# Altium footprint library Connector_Samtec_HLE_SMD.PcbLib: 290 footprints (part 8 of 24)
Each footprint in its own frame and in the unit in brackets; x right, y up, seen from the top. Pads: shape width x height; smd on the part's side, far side on the other; paste and mask are expansions set on the pad; w line width, h text height; cw(c..) or ccw(c..) is an arc to the next point about the centre after c.
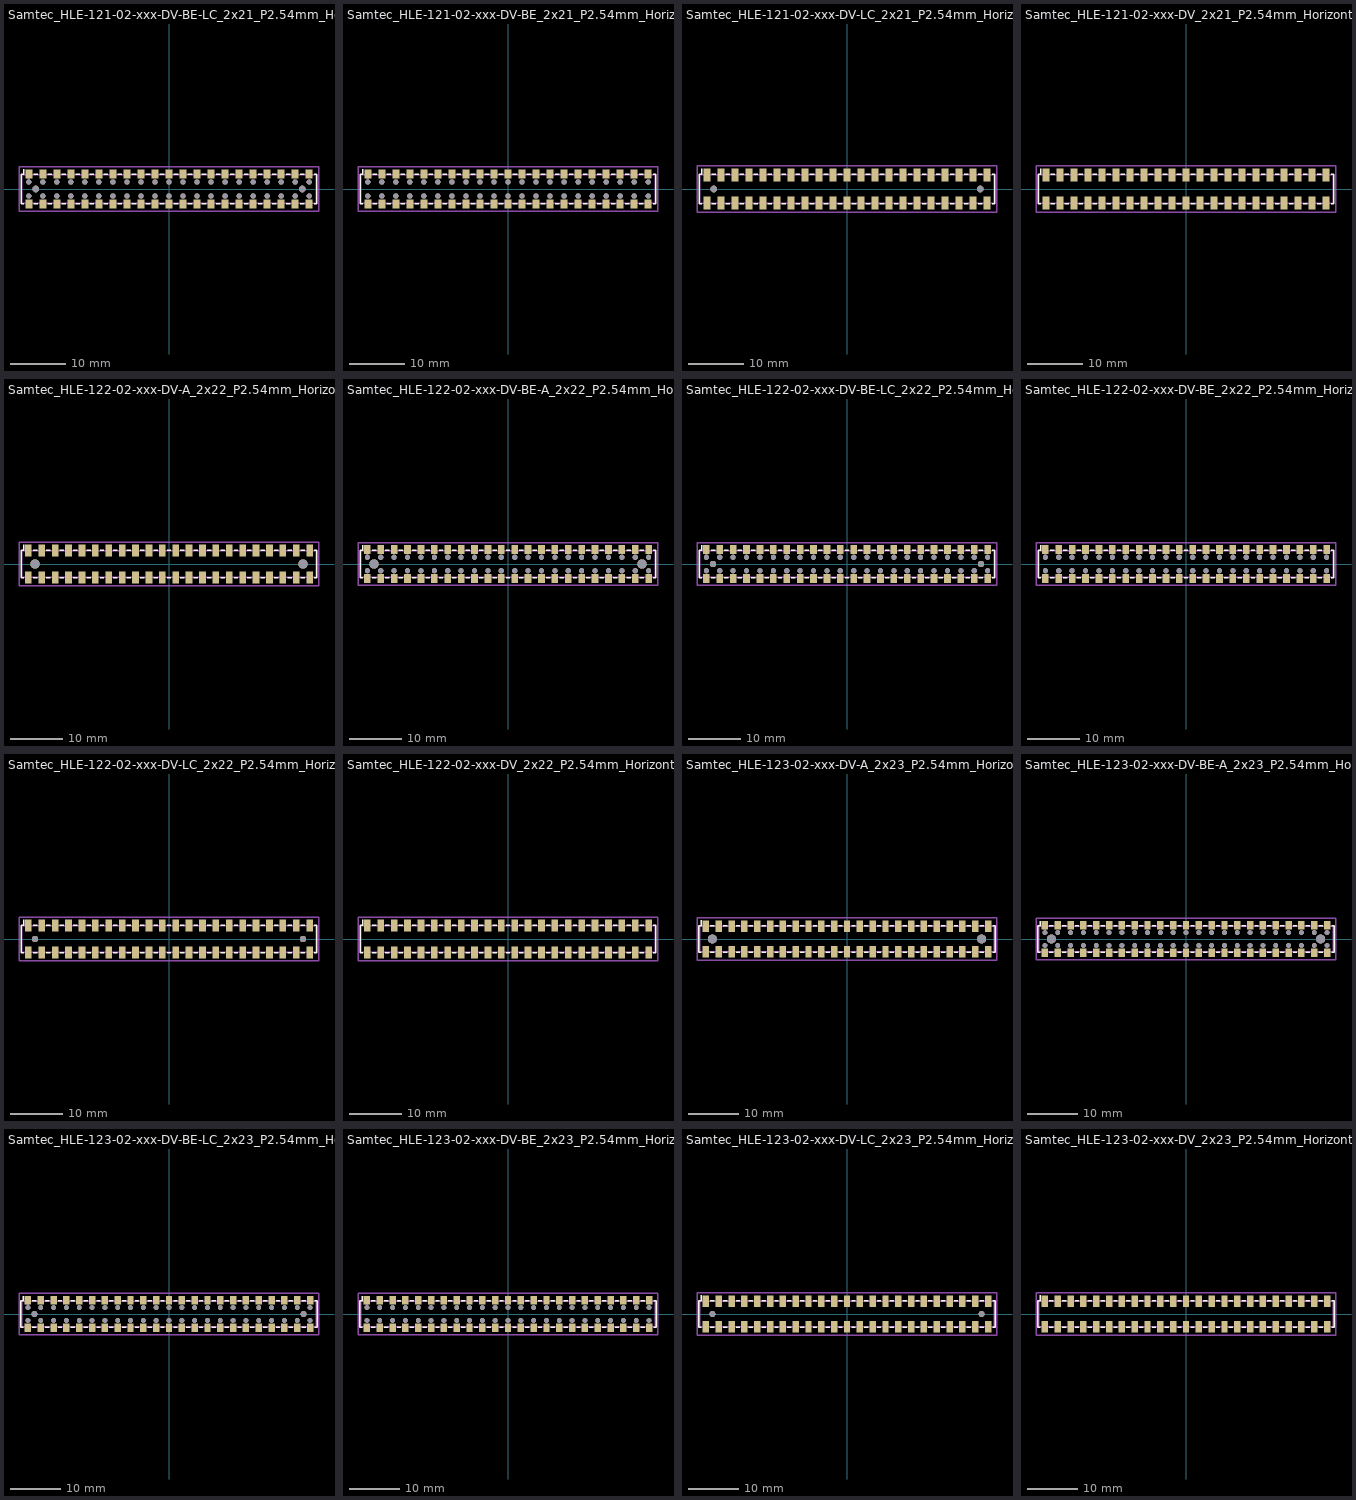
[diagram p7: the footprints below, top view; thin cyan lines are the x and y axes]

## Samtec_HLE-121-02-xxx-DV-BE-LC_2x21_P2.54mm_Horizontal [mm]
pads (86):
  rect 1.27x1.68 smd: 1(-25.4,2.72) 2(-25.4,-2.72) 3(-22.86,2.72) 4(-22.86,-2.72) 5(-20.32,2.72) 6(-20.32,-2.72) 7(-17.78,2.72) 8(-17.78,-2.72) 9(-15.24,2.72) 10(-15.24,-2.72) 11(-12.7,2.72) 12(-12.7,-2.72) 13(-10.16,2.72) 14(-10.16,-2.72) 15(-7.62,2.72) 16(-7.62,-2.72) 17(-5.08,2.72) 18(-5.08,-2.72) 19(-2.54,2.72) 20(-2.54,-2.72) 21(0,2.72) 22(0,-2.72) 23(2.54,2.72) 24(2.54,-2.72) 25(5.08,2.72) 26(5.08,-2.72) 27(7.62,2.72) 28(7.62,-2.72) 29(10.16,2.72) 30(10.16,-2.72) 31(12.7,2.72) 32(12.7,-2.72) 33(15.24,2.72) 34(15.24,-2.72) 35(17.78,2.72) 36(17.78,-2.72) 37(20.32,2.72) 38(20.32,-2.72) 39(22.86,2.72) 40(22.86,-2.72) 41(25.4,2.72) 42(25.4,-2.72)
  round 0.97 hole 0.97: Un1(-25.4,1.27) Un2(-25.4,-1.27) Un4(-22.86,1.27) Un5(-22.86,-1.27) Un6(-20.32,1.27) Un7(-20.32,-1.27) Un8(-17.78,1.27) Un9(-17.78,-1.27) Un10(-15.24,1.27) Un11(-15.24,-1.27) Un12(-12.7,1.27) Un13(-12.7,-1.27) Un14(-10.16,1.27) Un15(-10.16,-1.27) Un16(-7.62,1.27) Un17(-7.62,-1.27) Un18(-5.08,1.27) Un19(-5.08,-1.27) Un20(-2.54,1.27) Un21(-2.54,-1.27) Un22(0,1.27) Un23(0,-1.27) Un24(2.54,1.27) Un25(2.54,-1.27) Un26(5.08,1.27) Un27(5.08,-1.27) Un28(7.62,1.27) Un29(7.62,-1.27) Un30(10.16,1.27) Un31(10.16,-1.27) Un32(12.7,1.27) Un33(12.7,-1.27) Un34(15.24,1.27) Un35(15.24,-1.27) Un36(17.78,1.27) Un37(17.78,-1.27) Un38(20.32,1.27) Un39(20.32,-1.27) Un40(22.86,1.27) Un41(22.86,-1.27) Un43(25.4,1.27) Un44(25.4,-1.27)
  round 1.19 hole 1.19: Un3(-24.13,0) Un42(24.13,0)
F.SilkS:
  lines w0.254: -26.295,-2.65 -26.78,-2.65 -26.78,2.65 -26.295,2.65 -26.295,3.56 ; -24.505,-2.65 -23.755,-2.65 ; -24.505,2.65 -23.755,2.65 ; -21.965,-2.65 -21.215,-2.65 ; -21.965,2.65 -21.215,2.65 ; -19.425,-2.65 -18.675,-2.65 ; -19.425,2.65 -18.675,2.65 ; -16.885,-2.65 -16.135,-2.65 ; -16.885,2.65 -16.135,2.65 ; -14.345,-2.65 -13.595,-2.65 ; -14.345,2.65 -13.595,2.65 ; -11.805,-2.65 -11.055,-2.65 ; -11.805,2.65 -11.055,2.65 ; -9.265,-2.65 -8.515,-2.65 ; -9.265,2.65 -8.515,2.65 ; -6.725,-2.65 -5.975,-2.65 ; -6.725,2.65 -5.975,2.65 ; -4.185,-2.65 -3.435,-2.65 ; -4.185,2.65 -3.435,2.65 ; -1.645,-2.65 -0.895,-2.65 ; -1.645,2.65 -0.895,2.65 ; 0.895,-2.65 1.645,-2.65 ; 0.895,2.65 1.645,2.65 ; 3.435,-2.65 4.185,-2.65 ; 3.435,2.65 4.185,2.65 ; 5.975,-2.65 6.725,-2.65 ; 5.975,2.65 6.725,2.65 ; 8.515,-2.65 9.265,-2.65 ; 8.515,2.65 9.265,2.65 ; 11.055,-2.65 11.805,-2.65 ; 11.055,2.65 11.805,2.65 ; 13.595,-2.65 14.345,-2.65 ; 13.595,2.65 14.345,2.65 ; 16.135,-2.65 16.885,-2.65 ; 16.135,2.65 16.885,2.65 ; 18.675,-2.65 19.425,-2.65 ; 18.675,2.65 19.425,2.65 ; 21.215,-2.65 21.965,-2.65 ; 21.215,2.65 21.965,2.65 ; 23.755,-2.65 24.505,-2.65 ; 23.755,2.65 24.505,2.65 ; 26.295,-2.65 26.78,-2.65 26.78,2.65 26.295,2.65
Top Assembly:
  lines w0.254: -25.9,2.54 -25.4,1.833 -24.9,2.54 ; -26.67,-2.54 26.67,-2.54 26.67,2.54 -26.67,2.54 -26.67,-2.54
  text "'.Designator'" at -4.047,-2.68 h1
Top Courtyard:
  lines w0.254: -27.17,-4.07 27.17,-4.07 27.17,4.07 -27.17,4.07 -27.17,-4.07
Top Designator:
  text ".Designator" at -7.618,-0.508 h1.52

## Samtec_HLE-121-02-xxx-DV-BE_2x21_P2.54mm_Horizontal [mm]
pads (84):
  rect 1.27x1.68 smd: 1(-25.4,2.72) 2(-25.4,-2.72) 3(-22.86,2.72) 4(-22.86,-2.72) 5(-20.32,2.72) 6(-20.32,-2.72) 7(-17.78,2.72) 8(-17.78,-2.72) 9(-15.24,2.72) 10(-15.24,-2.72) 11(-12.7,2.72) 12(-12.7,-2.72) 13(-10.16,2.72) 14(-10.16,-2.72) 15(-7.62,2.72) 16(-7.62,-2.72) 17(-5.08,2.72) 18(-5.08,-2.72) 19(-2.54,2.72) 20(-2.54,-2.72) 21(0,2.72) 22(0,-2.72) 23(2.54,2.72) 24(2.54,-2.72) 25(5.08,2.72) 26(5.08,-2.72) 27(7.62,2.72) 28(7.62,-2.72) 29(10.16,2.72) 30(10.16,-2.72) 31(12.7,2.72) 32(12.7,-2.72) 33(15.24,2.72) 34(15.24,-2.72) 35(17.78,2.72) 36(17.78,-2.72) 37(20.32,2.72) 38(20.32,-2.72) 39(22.86,2.72) 40(22.86,-2.72) 41(25.4,2.72) 42(25.4,-2.72)
  round 0.97 hole 0.97: Un1(-25.4,1.27) Un2(-25.4,-1.27) Un3(-22.86,1.27) Un4(-22.86,-1.27) Un5(-20.32,1.27) Un6(-20.32,-1.27) Un7(-17.78,1.27) Un8(-17.78,-1.27) Un9(-15.24,1.27) Un10(-15.24,-1.27) Un11(-12.7,1.27) Un12(-12.7,-1.27) Un13(-10.16,1.27) Un14(-10.16,-1.27) Un15(-7.62,1.27) Un16(-7.62,-1.27) Un17(-5.08,1.27) Un18(-5.08,-1.27) Un19(-2.54,1.27) Un20(-2.54,-1.27) Un21(0,1.27) Un22(0,-1.27) Un23(2.54,1.27) Un24(2.54,-1.27) Un25(5.08,1.27) Un26(5.08,-1.27) Un27(7.62,1.27) Un28(7.62,-1.27) Un29(10.16,1.27) Un30(10.16,-1.27) Un31(12.7,1.27) Un32(12.7,-1.27) Un33(15.24,1.27) Un34(15.24,-1.27) Un35(17.78,1.27) Un36(17.78,-1.27) Un37(20.32,1.27) Un38(20.32,-1.27) Un39(22.86,1.27) Un40(22.86,-1.27) Un41(25.4,1.27) Un42(25.4,-1.27)
F.SilkS:
  lines w0.254: -26.295,-2.65 -26.78,-2.65 -26.78,2.65 -26.295,2.65 -26.295,3.56 ; -24.505,-2.65 -23.755,-2.65 ; -24.505,2.65 -23.755,2.65 ; -21.965,-2.65 -21.215,-2.65 ; -21.965,2.65 -21.215,2.65 ; -19.425,-2.65 -18.675,-2.65 ; -19.425,2.65 -18.675,2.65 ; -16.885,-2.65 -16.135,-2.65 ; -16.885,2.65 -16.135,2.65 ; -14.345,-2.65 -13.595,-2.65 ; -14.345,2.65 -13.595,2.65 ; -11.805,-2.65 -11.055,-2.65 ; -11.805,2.65 -11.055,2.65 ; -9.265,-2.65 -8.515,-2.65 ; -9.265,2.65 -8.515,2.65 ; -6.725,-2.65 -5.975,-2.65 ; -6.725,2.65 -5.975,2.65 ; -4.185,-2.65 -3.435,-2.65 ; -4.185,2.65 -3.435,2.65 ; -1.645,-2.65 -0.895,-2.65 ; -1.645,2.65 -0.895,2.65 ; 0.895,-2.65 1.645,-2.65 ; 0.895,2.65 1.645,2.65 ; 3.435,-2.65 4.185,-2.65 ; 3.435,2.65 4.185,2.65 ; 5.975,-2.65 6.725,-2.65 ; 5.975,2.65 6.725,2.65 ; 8.515,-2.65 9.265,-2.65 ; 8.515,2.65 9.265,2.65 ; 11.055,-2.65 11.805,-2.65 ; 11.055,2.65 11.805,2.65 ; 13.595,-2.65 14.345,-2.65 ; 13.595,2.65 14.345,2.65 ; 16.135,-2.65 16.885,-2.65 ; 16.135,2.65 16.885,2.65 ; 18.675,-2.65 19.425,-2.65 ; 18.675,2.65 19.425,2.65 ; 21.215,-2.65 21.965,-2.65 ; 21.215,2.65 21.965,2.65 ; 23.755,-2.65 24.505,-2.65 ; 23.755,2.65 24.505,2.65 ; 26.295,-2.65 26.78,-2.65 26.78,2.65 26.295,2.65
Top Assembly:
  lines w0.254: -25.9,2.54 -25.4,1.833 -24.9,2.54 ; -26.67,-2.54 26.67,-2.54 26.67,2.54 -26.67,2.54 -26.67,-2.54
  text "'.Designator'" at -4.047,-2.68 h1
Top Courtyard:
  lines w0.254: -27.17,-4.07 27.17,-4.07 27.17,4.07 -27.17,4.07 -27.17,-4.07
Top Designator:
  text ".Designator" at -7.618,-0.508 h1.52

## Samtec_HLE-121-02-xxx-DV-LC_2x21_P2.54mm_Horizontal [mm]
pads (44):
  rect 1.27x2.29 smd: 1(-25.4,2.525) 2(-25.4,-2.525) 3(-22.86,2.525) 4(-22.86,-2.525) 5(-20.32,2.525) 6(-20.32,-2.525) 7(-17.78,2.525) 8(-17.78,-2.525) 9(-15.24,2.525) 10(-15.24,-2.525) 11(-12.7,2.525) 12(-12.7,-2.525) 13(-10.16,2.525) 14(-10.16,-2.525) 15(-7.62,2.525) 16(-7.62,-2.525) 17(-5.08,2.525) 18(-5.08,-2.525) 19(-2.54,2.525) 20(-2.54,-2.525) 21(0,2.525) 22(0,-2.525) 23(2.54,2.525) 24(2.54,-2.525) 25(5.08,2.525) 26(5.08,-2.525) 27(7.62,2.525) 28(7.62,-2.525) 29(10.16,2.525) 30(10.16,-2.525) 31(12.7,2.525) 32(12.7,-2.525) 33(15.24,2.525) 34(15.24,-2.525) 35(17.78,2.525) 36(17.78,-2.525) 37(20.32,2.525) 38(20.32,-2.525) 39(22.86,2.525) 40(22.86,-2.525) 41(25.4,2.525) 42(25.4,-2.525)
  round 1.19 hole 1.19: Un1(-24.13,0) Un2(24.13,0)
F.SilkS:
  lines w0.254: -26.295,-2.65 -26.78,-2.65 -26.78,2.65 -26.295,2.65 -26.295,3.67 ; -24.505,-2.65 -23.755,-2.65 ; -24.505,2.65 -23.755,2.65 ; -21.965,-2.65 -21.215,-2.65 ; -21.965,2.65 -21.215,2.65 ; -19.425,-2.65 -18.675,-2.65 ; -19.425,2.65 -18.675,2.65 ; -16.885,-2.65 -16.135,-2.65 ; -16.885,2.65 -16.135,2.65 ; -14.345,-2.65 -13.595,-2.65 ; -14.345,2.65 -13.595,2.65 ; -11.805,-2.65 -11.055,-2.65 ; -11.805,2.65 -11.055,2.65 ; -9.265,-2.65 -8.515,-2.65 ; -9.265,2.65 -8.515,2.65 ; -6.725,-2.65 -5.975,-2.65 ; -6.725,2.65 -5.975,2.65 ; -4.185,-2.65 -3.435,-2.65 ; -4.185,2.65 -3.435,2.65 ; -1.645,-2.65 -0.895,-2.65 ; -1.645,2.65 -0.895,2.65 ; 0.895,-2.65 1.645,-2.65 ; 0.895,2.65 1.645,2.65 ; 3.435,-2.65 4.185,-2.65 ; 3.435,2.65 4.185,2.65 ; 5.975,-2.65 6.725,-2.65 ; 5.975,2.65 6.725,2.65 ; 8.515,-2.65 9.265,-2.65 ; 8.515,2.65 9.265,2.65 ; 11.055,-2.65 11.805,-2.65 ; 11.055,2.65 11.805,2.65 ; 13.595,-2.65 14.345,-2.65 ; 13.595,2.65 14.345,2.65 ; 16.135,-2.65 16.885,-2.65 ; 16.135,2.65 16.885,2.65 ; 18.675,-2.65 19.425,-2.65 ; 18.675,2.65 19.425,2.65 ; 21.215,-2.65 21.965,-2.65 ; 21.215,2.65 21.965,2.65 ; 23.755,-2.65 24.505,-2.65 ; 23.755,2.65 24.505,2.65 ; 26.295,-2.65 26.78,-2.65 26.78,2.65 26.295,2.65
Top Assembly:
  lines w0.254: -25.9,2.54 -25.4,1.833 -24.9,2.54 ; -26.67,-2.54 26.67,-2.54 26.67,2.54 -26.67,2.54 -26.67,-2.54
  text "'.Designator'" at -4.047,-2.68 h1
Top Courtyard:
  lines w0.254: -27.17,-4.17 27.17,-4.17 27.17,4.17 -27.17,4.17 -27.17,-4.17
Top Designator:
  text ".Designator" at -7.618,-0.508 h1.52

## Samtec_HLE-121-02-xxx-DV_2x21_P2.54mm_Horizontal [mm]
pads (42):
  rect 1.27x2.29 smd: 1(-25.4,2.525) 2(-25.4,-2.525) 3(-22.86,2.525) 4(-22.86,-2.525) 5(-20.32,2.525) 6(-20.32,-2.525) 7(-17.78,2.525) 8(-17.78,-2.525) 9(-15.24,2.525) 10(-15.24,-2.525) 11(-12.7,2.525) 12(-12.7,-2.525) 13(-10.16,2.525) 14(-10.16,-2.525) 15(-7.62,2.525) 16(-7.62,-2.525) 17(-5.08,2.525) 18(-5.08,-2.525) 19(-2.54,2.525) 20(-2.54,-2.525) 21(0,2.525) 22(0,-2.525) 23(2.54,2.525) 24(2.54,-2.525) 25(5.08,2.525) 26(5.08,-2.525) 27(7.62,2.525) 28(7.62,-2.525) 29(10.16,2.525) 30(10.16,-2.525) 31(12.7,2.525) 32(12.7,-2.525) 33(15.24,2.525) 34(15.24,-2.525) 35(17.78,2.525) 36(17.78,-2.525) 37(20.32,2.525) 38(20.32,-2.525) 39(22.86,2.525) 40(22.86,-2.525) 41(25.4,2.525) 42(25.4,-2.525)
F.SilkS:
  lines w0.254: -26.295,-2.65 -26.78,-2.65 -26.78,2.65 -26.295,2.65 -26.295,3.67 ; -24.505,-2.65 -23.755,-2.65 ; -24.505,2.65 -23.755,2.65 ; -21.965,-2.65 -21.215,-2.65 ; -21.965,2.65 -21.215,2.65 ; -19.425,-2.65 -18.675,-2.65 ; -19.425,2.65 -18.675,2.65 ; -16.885,-2.65 -16.135,-2.65 ; -16.885,2.65 -16.135,2.65 ; -14.345,-2.65 -13.595,-2.65 ; -14.345,2.65 -13.595,2.65 ; -11.805,-2.65 -11.055,-2.65 ; -11.805,2.65 -11.055,2.65 ; -9.265,-2.65 -8.515,-2.65 ; -9.265,2.65 -8.515,2.65 ; -6.725,-2.65 -5.975,-2.65 ; -6.725,2.65 -5.975,2.65 ; -4.185,-2.65 -3.435,-2.65 ; -4.185,2.65 -3.435,2.65 ; -1.645,-2.65 -0.895,-2.65 ; -1.645,2.65 -0.895,2.65 ; 0.895,-2.65 1.645,-2.65 ; 0.895,2.65 1.645,2.65 ; 3.435,-2.65 4.185,-2.65 ; 3.435,2.65 4.185,2.65 ; 5.975,-2.65 6.725,-2.65 ; 5.975,2.65 6.725,2.65 ; 8.515,-2.65 9.265,-2.65 ; 8.515,2.65 9.265,2.65 ; 11.055,-2.65 11.805,-2.65 ; 11.055,2.65 11.805,2.65 ; 13.595,-2.65 14.345,-2.65 ; 13.595,2.65 14.345,2.65 ; 16.135,-2.65 16.885,-2.65 ; 16.135,2.65 16.885,2.65 ; 18.675,-2.65 19.425,-2.65 ; 18.675,2.65 19.425,2.65 ; 21.215,-2.65 21.965,-2.65 ; 21.215,2.65 21.965,2.65 ; 23.755,-2.65 24.505,-2.65 ; 23.755,2.65 24.505,2.65 ; 26.295,-2.65 26.78,-2.65 26.78,2.65 26.295,2.65
Top Assembly:
  lines w0.254: -25.9,2.54 -25.4,1.833 -24.9,2.54 ; -26.67,-2.54 26.67,-2.54 26.67,2.54 -26.67,2.54 -26.67,-2.54
  text "'.Designator'" at -4.047,-2.68 h1
Top Courtyard:
  lines w0.254: -27.17,-4.17 27.17,-4.17 27.17,4.17 -27.17,4.17 -27.17,-4.17
Top Designator:
  text ".Designator" at -7.618,-0.508 h1.52

## Samtec_HLE-122-02-xxx-DV-A_2x22_P2.54mm_Horizontal [mm]
pads (46):
  rect 1.27x2.29 smd: 1(-26.67,2.525) 2(-26.67,-2.525) 3(-24.13,2.525) 4(-24.13,-2.525) 5(-21.59,2.525) 6(-21.59,-2.525) 7(-19.05,2.525) 8(-19.05,-2.525) 9(-16.51,2.525) 10(-16.51,-2.525) 11(-13.97,2.525) 12(-13.97,-2.525) 13(-11.43,2.525) 14(-11.43,-2.525) 15(-8.89,2.525) 16(-8.89,-2.525) 17(-6.35,2.525) 18(-6.35,-2.525) 19(-3.81,2.525) 20(-3.81,-2.525) 21(-1.27,2.525) 22(-1.27,-2.525) 23(1.27,2.525) 24(1.27,-2.525) 25(3.81,2.525) 26(3.81,-2.525) 27(6.35,2.525) 28(6.35,-2.525) 29(8.89,2.525) 30(8.89,-2.525) 31(11.43,2.525) 32(11.43,-2.525) 33(13.97,2.525) 34(13.97,-2.525) 35(16.51,2.525) 36(16.51,-2.525) 37(19.05,2.525) 38(19.05,-2.525) 39(21.59,2.525) 40(21.59,-2.525) 41(24.13,2.525) 42(24.13,-2.525) 43(26.67,2.525) 44(26.67,-2.525)
  round 1.78 hole 1.78: Un1(-25.4,0) Un2(25.4,0)
F.SilkS:
  lines w0.254: -27.565,-2.65 -28.05,-2.65 -28.05,2.65 -27.565,2.65 -27.565,3.67 ; -25.775,-2.65 -25.025,-2.65 ; -25.775,2.65 -25.025,2.65 ; -23.235,-2.65 -22.485,-2.65 ; -23.235,2.65 -22.485,2.65 ; -20.695,-2.65 -19.945,-2.65 ; -20.695,2.65 -19.945,2.65 ; -18.155,-2.65 -17.405,-2.65 ; -18.155,2.65 -17.405,2.65 ; -15.615,-2.65 -14.865,-2.65 ; -15.615,2.65 -14.865,2.65 ; -13.075,-2.65 -12.325,-2.65 ; -13.075,2.65 -12.325,2.65 ; -10.535,-2.65 -9.785,-2.65 ; -10.535,2.65 -9.785,2.65 ; -7.995,-2.65 -7.245,-2.65 ; -7.995,2.65 -7.245,2.65 ; -5.455,-2.65 -4.705,-2.65 ; -5.455,2.65 -4.705,2.65 ; -2.915,-2.65 -2.165,-2.65 ; -2.915,2.65 -2.165,2.65 ; -0.375,-2.65 0.375,-2.65 ; -0.375,2.65 0.375,2.65 ; 2.165,-2.65 2.915,-2.65 ; 2.165,2.65 2.915,2.65 ; 4.705,-2.65 5.455,-2.65 ; 4.705,2.65 5.455,2.65 ; 7.245,-2.65 7.995,-2.65 ; 7.245,2.65 7.995,2.65 ; 9.785,-2.65 10.535,-2.65 ; 9.785,2.65 10.535,2.65 ; 12.325,-2.65 13.075,-2.65 ; 12.325,2.65 13.075,2.65 ; 14.865,-2.65 15.615,-2.65 ; 14.865,2.65 15.615,2.65 ; 17.405,-2.65 18.155,-2.65 ; 17.405,2.65 18.155,2.65 ; 19.945,-2.65 20.695,-2.65 ; 19.945,2.65 20.695,2.65 ; 22.485,-2.65 23.235,-2.65 ; 22.485,2.65 23.235,2.65 ; 25.025,-2.65 25.775,-2.65 ; 25.025,2.65 25.775,2.65 ; 27.565,-2.65 28.05,-2.65 28.05,2.65 27.565,2.65
Top Assembly:
  lines w0.254: -27.17,2.54 -26.67,1.833 -26.17,2.54 ; -27.94,-2.54 27.94,-2.54 27.94,2.54 -27.94,2.54 -27.94,-2.54
  text "'.Designator'" at -4.047,-2.68 h1
Top Courtyard:
  lines w0.254: -28.44,-4.17 28.44,-4.17 28.44,4.17 -28.44,4.17 -28.44,-4.17
Top Designator:
  text ".Designator" at -7.618,-0.508 h1.52

## Samtec_HLE-122-02-xxx-DV-BE-A_2x22_P2.54mm_Horizontal [mm]
pads (90):
  rect 1.27x1.68 smd: 1(-26.67,2.72) 2(-26.67,-2.72) 3(-24.13,2.72) 4(-24.13,-2.72) 5(-21.59,2.72) 6(-21.59,-2.72) 7(-19.05,2.72) 8(-19.05,-2.72) 9(-16.51,2.72) 10(-16.51,-2.72) 11(-13.97,2.72) 12(-13.97,-2.72) 13(-11.43,2.72) 14(-11.43,-2.72) 15(-8.89,2.72) 16(-8.89,-2.72) 17(-6.35,2.72) 18(-6.35,-2.72) 19(-3.81,2.72) 20(-3.81,-2.72) 21(-1.27,2.72) 22(-1.27,-2.72) 23(1.27,2.72) 24(1.27,-2.72) 25(3.81,2.72) 26(3.81,-2.72) 27(6.35,2.72) 28(6.35,-2.72) 29(8.89,2.72) 30(8.89,-2.72) 31(11.43,2.72) 32(11.43,-2.72) 33(13.97,2.72) 34(13.97,-2.72) 35(16.51,2.72) 36(16.51,-2.72) 37(19.05,2.72) 38(19.05,-2.72) 39(21.59,2.72) 40(21.59,-2.72) 41(24.13,2.72) 42(24.13,-2.72) 43(26.67,2.72) 44(26.67,-2.72)
  round 0.97 hole 0.97: Un1(-26.67,1.27) Un2(-26.67,-1.27) Un4(-24.13,1.27) Un5(-24.13,-1.27) Un6(-21.59,1.27) Un7(-21.59,-1.27) Un8(-19.05,1.27) Un9(-19.05,-1.27) Un10(-16.51,1.27) Un11(-16.51,-1.27) Un12(-13.97,1.27) Un13(-13.97,-1.27) Un14(-11.43,1.27) Un15(-11.43,-1.27) Un16(-8.89,1.27) Un17(-8.89,-1.27) Un18(-6.35,1.27) Un19(-6.35,-1.27) Un20(-3.81,1.27) Un21(-3.81,-1.27) Un22(-1.27,1.27) Un23(-1.27,-1.27) Un24(1.27,1.27) Un25(1.27,-1.27) Un26(3.81,1.27) Un27(3.81,-1.27) Un28(6.35,1.27) Un29(6.35,-1.27) Un30(8.89,1.27) Un31(8.89,-1.27) Un32(11.43,1.27) Un33(11.43,-1.27) Un34(13.97,1.27) Un35(13.97,-1.27) Un36(16.51,1.27) Un37(16.51,-1.27) Un38(19.05,1.27) Un39(19.05,-1.27) Un40(21.59,1.27) Un41(21.59,-1.27) Un42(24.13,1.27) Un43(24.13,-1.27) Un45(26.67,1.27) Un46(26.67,-1.27)
  round 1.78 hole 1.78: Un3(-25.4,0) Un44(25.4,0)
F.SilkS:
  lines w0.254: -27.565,-2.65 -28.05,-2.65 -28.05,2.65 -27.565,2.65 -27.565,3.56 ; -25.775,-2.65 -25.025,-2.65 ; -25.775,2.65 -25.025,2.65 ; -23.235,-2.65 -22.485,-2.65 ; -23.235,2.65 -22.485,2.65 ; -20.695,-2.65 -19.945,-2.65 ; -20.695,2.65 -19.945,2.65 ; -18.155,-2.65 -17.405,-2.65 ; -18.155,2.65 -17.405,2.65 ; -15.615,-2.65 -14.865,-2.65 ; -15.615,2.65 -14.865,2.65 ; -13.075,-2.65 -12.325,-2.65 ; -13.075,2.65 -12.325,2.65 ; -10.535,-2.65 -9.785,-2.65 ; -10.535,2.65 -9.785,2.65 ; -7.995,-2.65 -7.245,-2.65 ; -7.995,2.65 -7.245,2.65 ; -5.455,-2.65 -4.705,-2.65 ; -5.455,2.65 -4.705,2.65 ; -2.915,-2.65 -2.165,-2.65 ; -2.915,2.65 -2.165,2.65 ; -0.375,-2.65 0.375,-2.65 ; -0.375,2.65 0.375,2.65 ; 2.165,-2.65 2.915,-2.65 ; 2.165,2.65 2.915,2.65 ; 4.705,-2.65 5.455,-2.65 ; 4.705,2.65 5.455,2.65 ; 7.245,-2.65 7.995,-2.65 ; 7.245,2.65 7.995,2.65 ; 9.785,-2.65 10.535,-2.65 ; 9.785,2.65 10.535,2.65 ; 12.325,-2.65 13.075,-2.65 ; 12.325,2.65 13.075,2.65 ; 14.865,-2.65 15.615,-2.65 ; 14.865,2.65 15.615,2.65 ; 17.405,-2.65 18.155,-2.65 ; 17.405,2.65 18.155,2.65 ; 19.945,-2.65 20.695,-2.65 ; 19.945,2.65 20.695,2.65 ; 22.485,-2.65 23.235,-2.65 ; 22.485,2.65 23.235,2.65 ; 25.025,-2.65 25.775,-2.65 ; 25.025,2.65 25.775,2.65 ; 27.565,-2.65 28.05,-2.65 28.05,2.65 27.565,2.65
Top Assembly:
  lines w0.254: -27.17,2.54 -26.67,1.833 -26.17,2.54 ; -27.94,-2.54 27.94,-2.54 27.94,2.54 -27.94,2.54 -27.94,-2.54
  text "'.Designator'" at -4.047,-2.68 h1
Top Courtyard:
  lines w0.254: -28.44,-4.07 28.44,-4.07 28.44,4.07 -28.44,4.07 -28.44,-4.07
Top Designator:
  text ".Designator" at -7.618,-0.508 h1.52

## Samtec_HLE-122-02-xxx-DV-BE-LC_2x22_P2.54mm_Horizontal [mm]
pads (90):
  rect 1.27x1.68 smd: 1(-26.67,2.72) 2(-26.67,-2.72) 3(-24.13,2.72) 4(-24.13,-2.72) 5(-21.59,2.72) 6(-21.59,-2.72) 7(-19.05,2.72) 8(-19.05,-2.72) 9(-16.51,2.72) 10(-16.51,-2.72) 11(-13.97,2.72) 12(-13.97,-2.72) 13(-11.43,2.72) 14(-11.43,-2.72) 15(-8.89,2.72) 16(-8.89,-2.72) 17(-6.35,2.72) 18(-6.35,-2.72) 19(-3.81,2.72) 20(-3.81,-2.72) 21(-1.27,2.72) 22(-1.27,-2.72) 23(1.27,2.72) 24(1.27,-2.72) 25(3.81,2.72) 26(3.81,-2.72) 27(6.35,2.72) 28(6.35,-2.72) 29(8.89,2.72) 30(8.89,-2.72) 31(11.43,2.72) 32(11.43,-2.72) 33(13.97,2.72) 34(13.97,-2.72) 35(16.51,2.72) 36(16.51,-2.72) 37(19.05,2.72) 38(19.05,-2.72) 39(21.59,2.72) 40(21.59,-2.72) 41(24.13,2.72) 42(24.13,-2.72) 43(26.67,2.72) 44(26.67,-2.72)
  round 0.97 hole 0.97: Un1(-26.67,1.27) Un2(-26.67,-1.27) Un4(-24.13,1.27) Un5(-24.13,-1.27) Un6(-21.59,1.27) Un7(-21.59,-1.27) Un8(-19.05,1.27) Un9(-19.05,-1.27) Un10(-16.51,1.27) Un11(-16.51,-1.27) Un12(-13.97,1.27) Un13(-13.97,-1.27) Un14(-11.43,1.27) Un15(-11.43,-1.27) Un16(-8.89,1.27) Un17(-8.89,-1.27) Un18(-6.35,1.27) Un19(-6.35,-1.27) Un20(-3.81,1.27) Un21(-3.81,-1.27) Un22(-1.27,1.27) Un23(-1.27,-1.27) Un24(1.27,1.27) Un25(1.27,-1.27) Un26(3.81,1.27) Un27(3.81,-1.27) Un28(6.35,1.27) Un29(6.35,-1.27) Un30(8.89,1.27) Un31(8.89,-1.27) Un32(11.43,1.27) Un33(11.43,-1.27) Un34(13.97,1.27) Un35(13.97,-1.27) Un36(16.51,1.27) Un37(16.51,-1.27) Un38(19.05,1.27) Un39(19.05,-1.27) Un40(21.59,1.27) Un41(21.59,-1.27) Un42(24.13,1.27) Un43(24.13,-1.27) Un45(26.67,1.27) Un46(26.67,-1.27)
  round 1.19 hole 1.19: Un3(-25.4,0) Un44(25.4,0)
F.SilkS:
  lines w0.254: -27.565,-2.65 -28.05,-2.65 -28.05,2.65 -27.565,2.65 -27.565,3.56 ; -25.775,-2.65 -25.025,-2.65 ; -25.775,2.65 -25.025,2.65 ; -23.235,-2.65 -22.485,-2.65 ; -23.235,2.65 -22.485,2.65 ; -20.695,-2.65 -19.945,-2.65 ; -20.695,2.65 -19.945,2.65 ; -18.155,-2.65 -17.405,-2.65 ; -18.155,2.65 -17.405,2.65 ; -15.615,-2.65 -14.865,-2.65 ; -15.615,2.65 -14.865,2.65 ; -13.075,-2.65 -12.325,-2.65 ; -13.075,2.65 -12.325,2.65 ; -10.535,-2.65 -9.785,-2.65 ; -10.535,2.65 -9.785,2.65 ; -7.995,-2.65 -7.245,-2.65 ; -7.995,2.65 -7.245,2.65 ; -5.455,-2.65 -4.705,-2.65 ; -5.455,2.65 -4.705,2.65 ; -2.915,-2.65 -2.165,-2.65 ; -2.915,2.65 -2.165,2.65 ; -0.375,-2.65 0.375,-2.65 ; -0.375,2.65 0.375,2.65 ; 2.165,-2.65 2.915,-2.65 ; 2.165,2.65 2.915,2.65 ; 4.705,-2.65 5.455,-2.65 ; 4.705,2.65 5.455,2.65 ; 7.245,-2.65 7.995,-2.65 ; 7.245,2.65 7.995,2.65 ; 9.785,-2.65 10.535,-2.65 ; 9.785,2.65 10.535,2.65 ; 12.325,-2.65 13.075,-2.65 ; 12.325,2.65 13.075,2.65 ; 14.865,-2.65 15.615,-2.65 ; 14.865,2.65 15.615,2.65 ; 17.405,-2.65 18.155,-2.65 ; 17.405,2.65 18.155,2.65 ; 19.945,-2.65 20.695,-2.65 ; 19.945,2.65 20.695,2.65 ; 22.485,-2.65 23.235,-2.65 ; 22.485,2.65 23.235,2.65 ; 25.025,-2.65 25.775,-2.65 ; 25.025,2.65 25.775,2.65 ; 27.565,-2.65 28.05,-2.65 28.05,2.65 27.565,2.65
Top Assembly:
  lines w0.254: -27.17,2.54 -26.67,1.833 -26.17,2.54 ; -27.94,-2.54 27.94,-2.54 27.94,2.54 -27.94,2.54 -27.94,-2.54
  text "'.Designator'" at -4.047,-2.68 h1
Top Courtyard:
  lines w0.254: -28.44,-4.07 28.44,-4.07 28.44,4.07 -28.44,4.07 -28.44,-4.07
Top Designator:
  text ".Designator" at -7.618,-0.508 h1.52

## Samtec_HLE-122-02-xxx-DV-BE_2x22_P2.54mm_Horizontal [mm]
pads (88):
  rect 1.27x1.68 smd: 1(-26.67,2.72) 2(-26.67,-2.72) 3(-24.13,2.72) 4(-24.13,-2.72) 5(-21.59,2.72) 6(-21.59,-2.72) 7(-19.05,2.72) 8(-19.05,-2.72) 9(-16.51,2.72) 10(-16.51,-2.72) 11(-13.97,2.72) 12(-13.97,-2.72) 13(-11.43,2.72) 14(-11.43,-2.72) 15(-8.89,2.72) 16(-8.89,-2.72) 17(-6.35,2.72) 18(-6.35,-2.72) 19(-3.81,2.72) 20(-3.81,-2.72) 21(-1.27,2.72) 22(-1.27,-2.72) 23(1.27,2.72) 24(1.27,-2.72) 25(3.81,2.72) 26(3.81,-2.72) 27(6.35,2.72) 28(6.35,-2.72) 29(8.89,2.72) 30(8.89,-2.72) 31(11.43,2.72) 32(11.43,-2.72) 33(13.97,2.72) 34(13.97,-2.72) 35(16.51,2.72) 36(16.51,-2.72) 37(19.05,2.72) 38(19.05,-2.72) 39(21.59,2.72) 40(21.59,-2.72) 41(24.13,2.72) 42(24.13,-2.72) 43(26.67,2.72) 44(26.67,-2.72)
  round 0.97 hole 0.97: Un1(-26.67,1.27) Un2(-26.67,-1.27) Un3(-24.13,1.27) Un4(-24.13,-1.27) Un5(-21.59,1.27) Un6(-21.59,-1.27) Un7(-19.05,1.27) Un8(-19.05,-1.27) Un9(-16.51,1.27) Un10(-16.51,-1.27) Un11(-13.97,1.27) Un12(-13.97,-1.27) Un13(-11.43,1.27) Un14(-11.43,-1.27) Un15(-8.89,1.27) Un16(-8.89,-1.27) Un17(-6.35,1.27) Un18(-6.35,-1.27) Un19(-3.81,1.27) Un20(-3.81,-1.27) Un21(-1.27,1.27) Un22(-1.27,-1.27) Un23(1.27,1.27) Un24(1.27,-1.27) Un25(3.81,1.27) Un26(3.81,-1.27) Un27(6.35,1.27) Un28(6.35,-1.27) Un29(8.89,1.27) Un30(8.89,-1.27) Un31(11.43,1.27) Un32(11.43,-1.27) Un33(13.97,1.27) Un34(13.97,-1.27) Un35(16.51,1.27) Un36(16.51,-1.27) Un37(19.05,1.27) Un38(19.05,-1.27) Un39(21.59,1.27) Un40(21.59,-1.27) Un41(24.13,1.27) Un42(24.13,-1.27) Un43(26.67,1.27) Un44(26.67,-1.27)
F.SilkS:
  lines w0.254: -27.565,-2.65 -28.05,-2.65 -28.05,2.65 -27.565,2.65 -27.565,3.56 ; -25.775,-2.65 -25.025,-2.65 ; -25.775,2.65 -25.025,2.65 ; -23.235,-2.65 -22.485,-2.65 ; -23.235,2.65 -22.485,2.65 ; -20.695,-2.65 -19.945,-2.65 ; -20.695,2.65 -19.945,2.65 ; -18.155,-2.65 -17.405,-2.65 ; -18.155,2.65 -17.405,2.65 ; -15.615,-2.65 -14.865,-2.65 ; -15.615,2.65 -14.865,2.65 ; -13.075,-2.65 -12.325,-2.65 ; -13.075,2.65 -12.325,2.65 ; -10.535,-2.65 -9.785,-2.65 ; -10.535,2.65 -9.785,2.65 ; -7.995,-2.65 -7.245,-2.65 ; -7.995,2.65 -7.245,2.65 ; -5.455,-2.65 -4.705,-2.65 ; -5.455,2.65 -4.705,2.65 ; -2.915,-2.65 -2.165,-2.65 ; -2.915,2.65 -2.165,2.65 ; -0.375,-2.65 0.375,-2.65 ; -0.375,2.65 0.375,2.65 ; 2.165,-2.65 2.915,-2.65 ; 2.165,2.65 2.915,2.65 ; 4.705,-2.65 5.455,-2.65 ; 4.705,2.65 5.455,2.65 ; 7.245,-2.65 7.995,-2.65 ; 7.245,2.65 7.995,2.65 ; 9.785,-2.65 10.535,-2.65 ; 9.785,2.65 10.535,2.65 ; 12.325,-2.65 13.075,-2.65 ; 12.325,2.65 13.075,2.65 ; 14.865,-2.65 15.615,-2.65 ; 14.865,2.65 15.615,2.65 ; 17.405,-2.65 18.155,-2.65 ; 17.405,2.65 18.155,2.65 ; 19.945,-2.65 20.695,-2.65 ; 19.945,2.65 20.695,2.65 ; 22.485,-2.65 23.235,-2.65 ; 22.485,2.65 23.235,2.65 ; 25.025,-2.65 25.775,-2.65 ; 25.025,2.65 25.775,2.65 ; 27.565,-2.65 28.05,-2.65 28.05,2.65 27.565,2.65
Top Assembly:
  lines w0.254: -27.17,2.54 -26.67,1.833 -26.17,2.54 ; -27.94,-2.54 27.94,-2.54 27.94,2.54 -27.94,2.54 -27.94,-2.54
  text "'.Designator'" at -4.047,-2.68 h1
Top Courtyard:
  lines w0.254: -28.44,-4.07 28.44,-4.07 28.44,4.07 -28.44,4.07 -28.44,-4.07
Top Designator:
  text ".Designator" at -7.618,-0.508 h1.52

## Samtec_HLE-122-02-xxx-DV-LC_2x22_P2.54mm_Horizontal [mm]
pads (46):
  rect 1.27x2.29 smd: 1(-26.67,2.525) 2(-26.67,-2.525) 3(-24.13,2.525) 4(-24.13,-2.525) 5(-21.59,2.525) 6(-21.59,-2.525) 7(-19.05,2.525) 8(-19.05,-2.525) 9(-16.51,2.525) 10(-16.51,-2.525) 11(-13.97,2.525) 12(-13.97,-2.525) 13(-11.43,2.525) 14(-11.43,-2.525) 15(-8.89,2.525) 16(-8.89,-2.525) 17(-6.35,2.525) 18(-6.35,-2.525) 19(-3.81,2.525) 20(-3.81,-2.525) 21(-1.27,2.525) 22(-1.27,-2.525) 23(1.27,2.525) 24(1.27,-2.525) 25(3.81,2.525) 26(3.81,-2.525) 27(6.35,2.525) 28(6.35,-2.525) 29(8.89,2.525) 30(8.89,-2.525) 31(11.43,2.525) 32(11.43,-2.525) 33(13.97,2.525) 34(13.97,-2.525) 35(16.51,2.525) 36(16.51,-2.525) 37(19.05,2.525) 38(19.05,-2.525) 39(21.59,2.525) 40(21.59,-2.525) 41(24.13,2.525) 42(24.13,-2.525) 43(26.67,2.525) 44(26.67,-2.525)
  round 1.19 hole 1.19: Un1(-25.4,0) Un2(25.4,0)
F.SilkS:
  lines w0.254: -27.565,-2.65 -28.05,-2.65 -28.05,2.65 -27.565,2.65 -27.565,3.67 ; -25.775,-2.65 -25.025,-2.65 ; -25.775,2.65 -25.025,2.65 ; -23.235,-2.65 -22.485,-2.65 ; -23.235,2.65 -22.485,2.65 ; -20.695,-2.65 -19.945,-2.65 ; -20.695,2.65 -19.945,2.65 ; -18.155,-2.65 -17.405,-2.65 ; -18.155,2.65 -17.405,2.65 ; -15.615,-2.65 -14.865,-2.65 ; -15.615,2.65 -14.865,2.65 ; -13.075,-2.65 -12.325,-2.65 ; -13.075,2.65 -12.325,2.65 ; -10.535,-2.65 -9.785,-2.65 ; -10.535,2.65 -9.785,2.65 ; -7.995,-2.65 -7.245,-2.65 ; -7.995,2.65 -7.245,2.65 ; -5.455,-2.65 -4.705,-2.65 ; -5.455,2.65 -4.705,2.65 ; -2.915,-2.65 -2.165,-2.65 ; -2.915,2.65 -2.165,2.65 ; -0.375,-2.65 0.375,-2.65 ; -0.375,2.65 0.375,2.65 ; 2.165,-2.65 2.915,-2.65 ; 2.165,2.65 2.915,2.65 ; 4.705,-2.65 5.455,-2.65 ; 4.705,2.65 5.455,2.65 ; 7.245,-2.65 7.995,-2.65 ; 7.245,2.65 7.995,2.65 ; 9.785,-2.65 10.535,-2.65 ; 9.785,2.65 10.535,2.65 ; 12.325,-2.65 13.075,-2.65 ; 12.325,2.65 13.075,2.65 ; 14.865,-2.65 15.615,-2.65 ; 14.865,2.65 15.615,2.65 ; 17.405,-2.65 18.155,-2.65 ; 17.405,2.65 18.155,2.65 ; 19.945,-2.65 20.695,-2.65 ; 19.945,2.65 20.695,2.65 ; 22.485,-2.65 23.235,-2.65 ; 22.485,2.65 23.235,2.65 ; 25.025,-2.65 25.775,-2.65 ; 25.025,2.65 25.775,2.65 ; 27.565,-2.65 28.05,-2.65 28.05,2.65 27.565,2.65
Top Assembly:
  lines w0.254: -27.17,2.54 -26.67,1.833 -26.17,2.54 ; -27.94,-2.54 27.94,-2.54 27.94,2.54 -27.94,2.54 -27.94,-2.54
  text "'.Designator'" at -4.047,-2.68 h1
Top Courtyard:
  lines w0.254: -28.44,-4.17 28.44,-4.17 28.44,4.17 -28.44,4.17 -28.44,-4.17
Top Designator:
  text ".Designator" at -7.618,-0.508 h1.52

## Samtec_HLE-122-02-xxx-DV_2x22_P2.54mm_Horizontal [mm]
pads (44):
  rect 1.27x2.29 smd: 1(-26.67,2.525) 2(-26.67,-2.525) 3(-24.13,2.525) 4(-24.13,-2.525) 5(-21.59,2.525) 6(-21.59,-2.525) 7(-19.05,2.525) 8(-19.05,-2.525) 9(-16.51,2.525) 10(-16.51,-2.525) 11(-13.97,2.525) 12(-13.97,-2.525) 13(-11.43,2.525) 14(-11.43,-2.525) 15(-8.89,2.525) 16(-8.89,-2.525) 17(-6.35,2.525) 18(-6.35,-2.525) 19(-3.81,2.525) 20(-3.81,-2.525) 21(-1.27,2.525) 22(-1.27,-2.525) 23(1.27,2.525) 24(1.27,-2.525) 25(3.81,2.525) 26(3.81,-2.525) 27(6.35,2.525) 28(6.35,-2.525) 29(8.89,2.525) 30(8.89,-2.525) 31(11.43,2.525) 32(11.43,-2.525) 33(13.97,2.525) 34(13.97,-2.525) 35(16.51,2.525) 36(16.51,-2.525) 37(19.05,2.525) 38(19.05,-2.525) 39(21.59,2.525) 40(21.59,-2.525) 41(24.13,2.525) 42(24.13,-2.525) 43(26.67,2.525) 44(26.67,-2.525)
F.SilkS:
  lines w0.254: -27.565,-2.65 -28.05,-2.65 -28.05,2.65 -27.565,2.65 -27.565,3.67 ; -25.775,-2.65 -25.025,-2.65 ; -25.775,2.65 -25.025,2.65 ; -23.235,-2.65 -22.485,-2.65 ; -23.235,2.65 -22.485,2.65 ; -20.695,-2.65 -19.945,-2.65 ; -20.695,2.65 -19.945,2.65 ; -18.155,-2.65 -17.405,-2.65 ; -18.155,2.65 -17.405,2.65 ; -15.615,-2.65 -14.865,-2.65 ; -15.615,2.65 -14.865,2.65 ; -13.075,-2.65 -12.325,-2.65 ; -13.075,2.65 -12.325,2.65 ; -10.535,-2.65 -9.785,-2.65 ; -10.535,2.65 -9.785,2.65 ; -7.995,-2.65 -7.245,-2.65 ; -7.995,2.65 -7.245,2.65 ; -5.455,-2.65 -4.705,-2.65 ; -5.455,2.65 -4.705,2.65 ; -2.915,-2.65 -2.165,-2.65 ; -2.915,2.65 -2.165,2.65 ; -0.375,-2.65 0.375,-2.65 ; -0.375,2.65 0.375,2.65 ; 2.165,-2.65 2.915,-2.65 ; 2.165,2.65 2.915,2.65 ; 4.705,-2.65 5.455,-2.65 ; 4.705,2.65 5.455,2.65 ; 7.245,-2.65 7.995,-2.65 ; 7.245,2.65 7.995,2.65 ; 9.785,-2.65 10.535,-2.65 ; 9.785,2.65 10.535,2.65 ; 12.325,-2.65 13.075,-2.65 ; 12.325,2.65 13.075,2.65 ; 14.865,-2.65 15.615,-2.65 ; 14.865,2.65 15.615,2.65 ; 17.405,-2.65 18.155,-2.65 ; 17.405,2.65 18.155,2.65 ; 19.945,-2.65 20.695,-2.65 ; 19.945,2.65 20.695,2.65 ; 22.485,-2.65 23.235,-2.65 ; 22.485,2.65 23.235,2.65 ; 25.025,-2.65 25.775,-2.65 ; 25.025,2.65 25.775,2.65 ; 27.565,-2.65 28.05,-2.65 28.05,2.65 27.565,2.65
Top Assembly:
  lines w0.254: -27.17,2.54 -26.67,1.833 -26.17,2.54 ; -27.94,-2.54 27.94,-2.54 27.94,2.54 -27.94,2.54 -27.94,-2.54
  text "'.Designator'" at -4.047,-2.68 h1
Top Courtyard:
  lines w0.254: -28.44,-4.17 28.44,-4.17 28.44,4.17 -28.44,4.17 -28.44,-4.17
Top Designator:
  text ".Designator" at -7.618,-0.508 h1.52

## Samtec_HLE-123-02-xxx-DV-A_2x23_P2.54mm_Horizontal [mm]
pads (48):
  rect 1.27x2.29 smd: 1(-27.94,2.525) 2(-27.94,-2.525) 3(-25.4,2.525) 4(-25.4,-2.525) 5(-22.86,2.525) 6(-22.86,-2.525) 7(-20.32,2.525) 8(-20.32,-2.525) 9(-17.78,2.525) 10(-17.78,-2.525) 11(-15.24,2.525) 12(-15.24,-2.525) 13(-12.7,2.525) 14(-12.7,-2.525) 15(-10.16,2.525) 16(-10.16,-2.525) 17(-7.62,2.525) 18(-7.62,-2.525) 19(-5.08,2.525) 20(-5.08,-2.525) 21(-2.54,2.525) 22(-2.54,-2.525) 23(0,2.525) 24(0,-2.525) 25(2.54,2.525) 26(2.54,-2.525) 27(5.08,2.525) 28(5.08,-2.525) 29(7.62,2.525) 30(7.62,-2.525) 31(10.16,2.525) 32(10.16,-2.525) 33(12.7,2.525) 34(12.7,-2.525) 35(15.24,2.525) 36(15.24,-2.525) 37(17.78,2.525) 38(17.78,-2.525) 39(20.32,2.525) 40(20.32,-2.525) 41(22.86,2.525) 42(22.86,-2.525) 43(25.4,2.525) 44(25.4,-2.525) 45(27.94,2.525) 46(27.94,-2.525)
  round 1.78 hole 1.78: Un1(-26.67,0) Un2(26.67,0)
F.SilkS:
  lines w0.254: -28.835,-2.65 -29.32,-2.65 -29.32,2.65 -28.835,2.65 -28.835,3.67 ; -27.045,-2.65 -26.295,-2.65 ; -27.045,2.65 -26.295,2.65 ; -24.505,-2.65 -23.755,-2.65 ; -24.505,2.65 -23.755,2.65 ; -21.965,-2.65 -21.215,-2.65 ; -21.965,2.65 -21.215,2.65 ; -19.425,-2.65 -18.675,-2.65 ; -19.425,2.65 -18.675,2.65 ; -16.885,-2.65 -16.135,-2.65 ; -16.885,2.65 -16.135,2.65 ; -14.345,-2.65 -13.595,-2.65 ; -14.345,2.65 -13.595,2.65 ; -11.805,-2.65 -11.055,-2.65 ; -11.805,2.65 -11.055,2.65 ; -9.265,-2.65 -8.515,-2.65 ; -9.265,2.65 -8.515,2.65 ; -6.725,-2.65 -5.975,-2.65 ; -6.725,2.65 -5.975,2.65 ; -4.185,-2.65 -3.435,-2.65 ; -4.185,2.65 -3.435,2.65 ; -1.645,-2.65 -0.895,-2.65 ; -1.645,2.65 -0.895,2.65 ; 0.895,-2.65 1.645,-2.65 ; 0.895,2.65 1.645,2.65 ; 3.435,-2.65 4.185,-2.65 ; 3.435,2.65 4.185,2.65 ; 5.975,-2.65 6.725,-2.65 ; 5.975,2.65 6.725,2.65 ; 8.515,-2.65 9.265,-2.65 ; 8.515,2.65 9.265,2.65 ; 11.055,-2.65 11.805,-2.65 ; 11.055,2.65 11.805,2.65 ; 13.595,-2.65 14.345,-2.65 ; 13.595,2.65 14.345,2.65 ; 16.135,-2.65 16.885,-2.65 ; 16.135,2.65 16.885,2.65 ; 18.675,-2.65 19.425,-2.65 ; 18.675,2.65 19.425,2.65 ; 21.215,-2.65 21.965,-2.65 ; 21.215,2.65 21.965,2.65 ; 23.755,-2.65 24.505,-2.65 ; 23.755,2.65 24.505,2.65 ; 26.295,-2.65 27.045,-2.65 ; 26.295,2.65 27.045,2.65 ; 28.835,-2.65 29.32,-2.65 29.32,2.65 28.835,2.65
Top Assembly:
  lines w0.254: -28.44,2.54 -27.94,1.833 -27.44,2.54 ; -29.21,-2.54 29.21,-2.54 29.21,2.54 -29.21,2.54 -29.21,-2.54
  text "'.Designator'" at -4.047,-2.68 h1
Top Courtyard:
  lines w0.254: -29.71,-4.17 29.71,-4.17 29.71,4.17 -29.71,4.17 -29.71,-4.17
Top Designator:
  text ".Designator" at -7.618,-0.508 h1.52

## Samtec_HLE-123-02-xxx-DV-BE-A_2x23_P2.54mm_Horizontal [mm]
pads (94):
  rect 1.27x1.68 smd: 1(-27.94,2.72) 2(-27.94,-2.72) 3(-25.4,2.72) 4(-25.4,-2.72) 5(-22.86,2.72) 6(-22.86,-2.72) 7(-20.32,2.72) 8(-20.32,-2.72) 9(-17.78,2.72) 10(-17.78,-2.72) 11(-15.24,2.72) 12(-15.24,-2.72) 13(-12.7,2.72) 14(-12.7,-2.72) 15(-10.16,2.72) 16(-10.16,-2.72) 17(-7.62,2.72) 18(-7.62,-2.72) 19(-5.08,2.72) 20(-5.08,-2.72) 21(-2.54,2.72) 22(-2.54,-2.72) 23(0,2.72) 24(0,-2.72) 25(2.54,2.72) 26(2.54,-2.72) 27(5.08,2.72) 28(5.08,-2.72) 29(7.62,2.72) 30(7.62,-2.72) 31(10.16,2.72) 32(10.16,-2.72) 33(12.7,2.72) 34(12.7,-2.72) 35(15.24,2.72) 36(15.24,-2.72) 37(17.78,2.72) 38(17.78,-2.72) 39(20.32,2.72) 40(20.32,-2.72) 41(22.86,2.72) 42(22.86,-2.72) 43(25.4,2.72) 44(25.4,-2.72) 45(27.94,2.72) 46(27.94,-2.72)
  round 0.97 hole 0.97: Un1(-27.94,1.27) Un2(-27.94,-1.27) Un4(-25.4,1.27) Un5(-25.4,-1.27) Un6(-22.86,1.27) Un7(-22.86,-1.27) Un8(-20.32,1.27) Un9(-20.32,-1.27) Un10(-17.78,1.27) Un11(-17.78,-1.27) Un12(-15.24,1.27) Un13(-15.24,-1.27) Un14(-12.7,1.27) Un15(-12.7,-1.27) Un16(-10.16,1.27) Un17(-10.16,-1.27) Un18(-7.62,1.27) Un19(-7.62,-1.27) Un20(-5.08,1.27) Un21(-5.08,-1.27) Un22(-2.54,1.27) Un23(-2.54,-1.27) Un24(0,1.27) Un25(0,-1.27) Un26(2.54,1.27) Un27(2.54,-1.27) Un28(5.08,1.27) Un29(5.08,-1.27) Un30(7.62,1.27) Un31(7.62,-1.27) Un32(10.16,1.27) Un33(10.16,-1.27) Un34(12.7,1.27) Un35(12.7,-1.27) Un36(15.24,1.27) Un37(15.24,-1.27) Un38(17.78,1.27) Un39(17.78,-1.27) Un40(20.32,1.27) Un41(20.32,-1.27) Un42(22.86,1.27) Un43(22.86,-1.27) Un44(25.4,1.27) Un45(25.4,-1.27) Un47(27.94,1.27) Un48(27.94,-1.27)
  round 1.78 hole 1.78: Un3(-26.67,0) Un46(26.67,0)
F.SilkS:
  lines w0.254: -28.835,-2.65 -29.32,-2.65 -29.32,2.65 -28.835,2.65 -28.835,3.56 ; -27.045,-2.65 -26.295,-2.65 ; -27.045,2.65 -26.295,2.65 ; -24.505,-2.65 -23.755,-2.65 ; -24.505,2.65 -23.755,2.65 ; -21.965,-2.65 -21.215,-2.65 ; -21.965,2.65 -21.215,2.65 ; -19.425,-2.65 -18.675,-2.65 ; -19.425,2.65 -18.675,2.65 ; -16.885,-2.65 -16.135,-2.65 ; -16.885,2.65 -16.135,2.65 ; -14.345,-2.65 -13.595,-2.65 ; -14.345,2.65 -13.595,2.65 ; -11.805,-2.65 -11.055,-2.65 ; -11.805,2.65 -11.055,2.65 ; -9.265,-2.65 -8.515,-2.65 ; -9.265,2.65 -8.515,2.65 ; -6.725,-2.65 -5.975,-2.65 ; -6.725,2.65 -5.975,2.65 ; -4.185,-2.65 -3.435,-2.65 ; -4.185,2.65 -3.435,2.65 ; -1.645,-2.65 -0.895,-2.65 ; -1.645,2.65 -0.895,2.65 ; 0.895,-2.65 1.645,-2.65 ; 0.895,2.65 1.645,2.65 ; 3.435,-2.65 4.185,-2.65 ; 3.435,2.65 4.185,2.65 ; 5.975,-2.65 6.725,-2.65 ; 5.975,2.65 6.725,2.65 ; 8.515,-2.65 9.265,-2.65 ; 8.515,2.65 9.265,2.65 ; 11.055,-2.65 11.805,-2.65 ; 11.055,2.65 11.805,2.65 ; 13.595,-2.65 14.345,-2.65 ; 13.595,2.65 14.345,2.65 ; 16.135,-2.65 16.885,-2.65 ; 16.135,2.65 16.885,2.65 ; 18.675,-2.65 19.425,-2.65 ; 18.675,2.65 19.425,2.65 ; 21.215,-2.65 21.965,-2.65 ; 21.215,2.65 21.965,2.65 ; 23.755,-2.65 24.505,-2.65 ; 23.755,2.65 24.505,2.65 ; 26.295,-2.65 27.045,-2.65 ; 26.295,2.65 27.045,2.65 ; 28.835,-2.65 29.32,-2.65 29.32,2.65 28.835,2.65
Top Assembly:
  lines w0.254: -28.44,2.54 -27.94,1.833 -27.44,2.54 ; -29.21,-2.54 29.21,-2.54 29.21,2.54 -29.21,2.54 -29.21,-2.54
  text "'.Designator'" at -4.047,-2.68 h1
Top Courtyard:
  lines w0.254: -29.71,-4.07 29.71,-4.07 29.71,4.07 -29.71,4.07 -29.71,-4.07
Top Designator:
  text ".Designator" at -7.618,-0.508 h1.52

## Samtec_HLE-123-02-xxx-DV-BE-LC_2x23_P2.54mm_Horizontal [mm]
pads (94):
  rect 1.27x1.68 smd: 1(-27.94,2.72) 2(-27.94,-2.72) 3(-25.4,2.72) 4(-25.4,-2.72) 5(-22.86,2.72) 6(-22.86,-2.72) 7(-20.32,2.72) 8(-20.32,-2.72) 9(-17.78,2.72) 10(-17.78,-2.72) 11(-15.24,2.72) 12(-15.24,-2.72) 13(-12.7,2.72) 14(-12.7,-2.72) 15(-10.16,2.72) 16(-10.16,-2.72) 17(-7.62,2.72) 18(-7.62,-2.72) 19(-5.08,2.72) 20(-5.08,-2.72) 21(-2.54,2.72) 22(-2.54,-2.72) 23(0,2.72) 24(0,-2.72) 25(2.54,2.72) 26(2.54,-2.72) 27(5.08,2.72) 28(5.08,-2.72) 29(7.62,2.72) 30(7.62,-2.72) 31(10.16,2.72) 32(10.16,-2.72) 33(12.7,2.72) 34(12.7,-2.72) 35(15.24,2.72) 36(15.24,-2.72) 37(17.78,2.72) 38(17.78,-2.72) 39(20.32,2.72) 40(20.32,-2.72) 41(22.86,2.72) 42(22.86,-2.72) 43(25.4,2.72) 44(25.4,-2.72) 45(27.94,2.72) 46(27.94,-2.72)
  round 0.97 hole 0.97: Un1(-27.94,1.27) Un2(-27.94,-1.27) Un4(-25.4,1.27) Un5(-25.4,-1.27) Un6(-22.86,1.27) Un7(-22.86,-1.27) Un8(-20.32,1.27) Un9(-20.32,-1.27) Un10(-17.78,1.27) Un11(-17.78,-1.27) Un12(-15.24,1.27) Un13(-15.24,-1.27) Un14(-12.7,1.27) Un15(-12.7,-1.27) Un16(-10.16,1.27) Un17(-10.16,-1.27) Un18(-7.62,1.27) Un19(-7.62,-1.27) Un20(-5.08,1.27) Un21(-5.08,-1.27) Un22(-2.54,1.27) Un23(-2.54,-1.27) Un24(0,1.27) Un25(0,-1.27) Un26(2.54,1.27) Un27(2.54,-1.27) Un28(5.08,1.27) Un29(5.08,-1.27) Un30(7.62,1.27) Un31(7.62,-1.27) Un32(10.16,1.27) Un33(10.16,-1.27) Un34(12.7,1.27) Un35(12.7,-1.27) Un36(15.24,1.27) Un37(15.24,-1.27) Un38(17.78,1.27) Un39(17.78,-1.27) Un40(20.32,1.27) Un41(20.32,-1.27) Un42(22.86,1.27) Un43(22.86,-1.27) Un44(25.4,1.27) Un45(25.4,-1.27) Un47(27.94,1.27) Un48(27.94,-1.27)
  round 1.19 hole 1.19: Un3(-26.67,0) Un46(26.67,0)
F.SilkS:
  lines w0.254: -28.835,-2.65 -29.32,-2.65 -29.32,2.65 -28.835,2.65 -28.835,3.56 ; -27.045,-2.65 -26.295,-2.65 ; -27.045,2.65 -26.295,2.65 ; -24.505,-2.65 -23.755,-2.65 ; -24.505,2.65 -23.755,2.65 ; -21.965,-2.65 -21.215,-2.65 ; -21.965,2.65 -21.215,2.65 ; -19.425,-2.65 -18.675,-2.65 ; -19.425,2.65 -18.675,2.65 ; -16.885,-2.65 -16.135,-2.65 ; -16.885,2.65 -16.135,2.65 ; -14.345,-2.65 -13.595,-2.65 ; -14.345,2.65 -13.595,2.65 ; -11.805,-2.65 -11.055,-2.65 ; -11.805,2.65 -11.055,2.65 ; -9.265,-2.65 -8.515,-2.65 ; -9.265,2.65 -8.515,2.65 ; -6.725,-2.65 -5.975,-2.65 ; -6.725,2.65 -5.975,2.65 ; -4.185,-2.65 -3.435,-2.65 ; -4.185,2.65 -3.435,2.65 ; -1.645,-2.65 -0.895,-2.65 ; -1.645,2.65 -0.895,2.65 ; 0.895,-2.65 1.645,-2.65 ; 0.895,2.65 1.645,2.65 ; 3.435,-2.65 4.185,-2.65 ; 3.435,2.65 4.185,2.65 ; 5.975,-2.65 6.725,-2.65 ; 5.975,2.65 6.725,2.65 ; 8.515,-2.65 9.265,-2.65 ; 8.515,2.65 9.265,2.65 ; 11.055,-2.65 11.805,-2.65 ; 11.055,2.65 11.805,2.65 ; 13.595,-2.65 14.345,-2.65 ; 13.595,2.65 14.345,2.65 ; 16.135,-2.65 16.885,-2.65 ; 16.135,2.65 16.885,2.65 ; 18.675,-2.65 19.425,-2.65 ; 18.675,2.65 19.425,2.65 ; 21.215,-2.65 21.965,-2.65 ; 21.215,2.65 21.965,2.65 ; 23.755,-2.65 24.505,-2.65 ; 23.755,2.65 24.505,2.65 ; 26.295,-2.65 27.045,-2.65 ; 26.295,2.65 27.045,2.65 ; 28.835,-2.65 29.32,-2.65 29.32,2.65 28.835,2.65
Top Assembly:
  lines w0.254: -28.44,2.54 -27.94,1.833 -27.44,2.54 ; -29.21,-2.54 29.21,-2.54 29.21,2.54 -29.21,2.54 -29.21,-2.54
  text "'.Designator'" at -4.047,-2.68 h1
Top Courtyard:
  lines w0.254: -29.71,-4.07 29.71,-4.07 29.71,4.07 -29.71,4.07 -29.71,-4.07
Top Designator:
  text ".Designator" at -7.618,-0.508 h1.52

## Samtec_HLE-123-02-xxx-DV-BE_2x23_P2.54mm_Horizontal [mm]
pads (92):
  rect 1.27x1.68 smd: 1(-27.94,2.72) 2(-27.94,-2.72) 3(-25.4,2.72) 4(-25.4,-2.72) 5(-22.86,2.72) 6(-22.86,-2.72) 7(-20.32,2.72) 8(-20.32,-2.72) 9(-17.78,2.72) 10(-17.78,-2.72) 11(-15.24,2.72) 12(-15.24,-2.72) 13(-12.7,2.72) 14(-12.7,-2.72) 15(-10.16,2.72) 16(-10.16,-2.72) 17(-7.62,2.72) 18(-7.62,-2.72) 19(-5.08,2.72) 20(-5.08,-2.72) 21(-2.54,2.72) 22(-2.54,-2.72) 23(0,2.72) 24(0,-2.72) 25(2.54,2.72) 26(2.54,-2.72) 27(5.08,2.72) 28(5.08,-2.72) 29(7.62,2.72) 30(7.62,-2.72) 31(10.16,2.72) 32(10.16,-2.72) 33(12.7,2.72) 34(12.7,-2.72) 35(15.24,2.72) 36(15.24,-2.72) 37(17.78,2.72) 38(17.78,-2.72) 39(20.32,2.72) 40(20.32,-2.72) 41(22.86,2.72) 42(22.86,-2.72) 43(25.4,2.72) 44(25.4,-2.72) 45(27.94,2.72) 46(27.94,-2.72)
  round 0.97 hole 0.97: Un1(-27.94,1.27) Un2(-27.94,-1.27) Un3(-25.4,1.27) Un4(-25.4,-1.27) Un5(-22.86,1.27) Un6(-22.86,-1.27) Un7(-20.32,1.27) Un8(-20.32,-1.27) Un9(-17.78,1.27) Un10(-17.78,-1.27) Un11(-15.24,1.27) Un12(-15.24,-1.27) Un13(-12.7,1.27) Un14(-12.7,-1.27) Un15(-10.16,1.27) Un16(-10.16,-1.27) Un17(-7.62,1.27) Un18(-7.62,-1.27) Un19(-5.08,1.27) Un20(-5.08,-1.27) Un21(-2.54,1.27) Un22(-2.54,-1.27) Un23(0,1.27) Un24(0,-1.27) Un25(2.54,1.27) Un26(2.54,-1.27) Un27(5.08,1.27) Un28(5.08,-1.27) Un29(7.62,1.27) Un30(7.62,-1.27) Un31(10.16,1.27) Un32(10.16,-1.27) Un33(12.7,1.27) Un34(12.7,-1.27) Un35(15.24,1.27) Un36(15.24,-1.27) Un37(17.78,1.27) Un38(17.78,-1.27) Un39(20.32,1.27) Un40(20.32,-1.27) Un41(22.86,1.27) Un42(22.86,-1.27) Un43(25.4,1.27) Un44(25.4,-1.27) Un45(27.94,1.27) Un46(27.94,-1.27)
F.SilkS:
  lines w0.254: -28.835,-2.65 -29.32,-2.65 -29.32,2.65 -28.835,2.65 -28.835,3.56 ; -27.045,-2.65 -26.295,-2.65 ; -27.045,2.65 -26.295,2.65 ; -24.505,-2.65 -23.755,-2.65 ; -24.505,2.65 -23.755,2.65 ; -21.965,-2.65 -21.215,-2.65 ; -21.965,2.65 -21.215,2.65 ; -19.425,-2.65 -18.675,-2.65 ; -19.425,2.65 -18.675,2.65 ; -16.885,-2.65 -16.135,-2.65 ; -16.885,2.65 -16.135,2.65 ; -14.345,-2.65 -13.595,-2.65 ; -14.345,2.65 -13.595,2.65 ; -11.805,-2.65 -11.055,-2.65 ; -11.805,2.65 -11.055,2.65 ; -9.265,-2.65 -8.515,-2.65 ; -9.265,2.65 -8.515,2.65 ; -6.725,-2.65 -5.975,-2.65 ; -6.725,2.65 -5.975,2.65 ; -4.185,-2.65 -3.435,-2.65 ; -4.185,2.65 -3.435,2.65 ; -1.645,-2.65 -0.895,-2.65 ; -1.645,2.65 -0.895,2.65 ; 0.895,-2.65 1.645,-2.65 ; 0.895,2.65 1.645,2.65 ; 3.435,-2.65 4.185,-2.65 ; 3.435,2.65 4.185,2.65 ; 5.975,-2.65 6.725,-2.65 ; 5.975,2.65 6.725,2.65 ; 8.515,-2.65 9.265,-2.65 ; 8.515,2.65 9.265,2.65 ; 11.055,-2.65 11.805,-2.65 ; 11.055,2.65 11.805,2.65 ; 13.595,-2.65 14.345,-2.65 ; 13.595,2.65 14.345,2.65 ; 16.135,-2.65 16.885,-2.65 ; 16.135,2.65 16.885,2.65 ; 18.675,-2.65 19.425,-2.65 ; 18.675,2.65 19.425,2.65 ; 21.215,-2.65 21.965,-2.65 ; 21.215,2.65 21.965,2.65 ; 23.755,-2.65 24.505,-2.65 ; 23.755,2.65 24.505,2.65 ; 26.295,-2.65 27.045,-2.65 ; 26.295,2.65 27.045,2.65 ; 28.835,-2.65 29.32,-2.65 29.32,2.65 28.835,2.65
Top Assembly:
  lines w0.254: -28.44,2.54 -27.94,1.833 -27.44,2.54 ; -29.21,-2.54 29.21,-2.54 29.21,2.54 -29.21,2.54 -29.21,-2.54
  text "'.Designator'" at -4.047,-2.68 h1
Top Courtyard:
  lines w0.254: -29.71,-4.07 29.71,-4.07 29.71,4.07 -29.71,4.07 -29.71,-4.07
Top Designator:
  text ".Designator" at -7.618,-0.508 h1.52

## Samtec_HLE-123-02-xxx-DV-LC_2x23_P2.54mm_Horizontal [mm]
pads (48):
  rect 1.27x2.29 smd: 1(-27.94,2.525) 2(-27.94,-2.525) 3(-25.4,2.525) 4(-25.4,-2.525) 5(-22.86,2.525) 6(-22.86,-2.525) 7(-20.32,2.525) 8(-20.32,-2.525) 9(-17.78,2.525) 10(-17.78,-2.525) 11(-15.24,2.525) 12(-15.24,-2.525) 13(-12.7,2.525) 14(-12.7,-2.525) 15(-10.16,2.525) 16(-10.16,-2.525) 17(-7.62,2.525) 18(-7.62,-2.525) 19(-5.08,2.525) 20(-5.08,-2.525) 21(-2.54,2.525) 22(-2.54,-2.525) 23(0,2.525) 24(0,-2.525) 25(2.54,2.525) 26(2.54,-2.525) 27(5.08,2.525) 28(5.08,-2.525) 29(7.62,2.525) 30(7.62,-2.525) 31(10.16,2.525) 32(10.16,-2.525) 33(12.7,2.525) 34(12.7,-2.525) 35(15.24,2.525) 36(15.24,-2.525) 37(17.78,2.525) 38(17.78,-2.525) 39(20.32,2.525) 40(20.32,-2.525) 41(22.86,2.525) 42(22.86,-2.525) 43(25.4,2.525) 44(25.4,-2.525) 45(27.94,2.525) 46(27.94,-2.525)
  round 1.19 hole 1.19: Un1(-26.67,0) Un2(26.67,0)
F.SilkS:
  lines w0.254: -28.835,-2.65 -29.32,-2.65 -29.32,2.65 -28.835,2.65 -28.835,3.67 ; -27.045,-2.65 -26.295,-2.65 ; -27.045,2.65 -26.295,2.65 ; -24.505,-2.65 -23.755,-2.65 ; -24.505,2.65 -23.755,2.65 ; -21.965,-2.65 -21.215,-2.65 ; -21.965,2.65 -21.215,2.65 ; -19.425,-2.65 -18.675,-2.65 ; -19.425,2.65 -18.675,2.65 ; -16.885,-2.65 -16.135,-2.65 ; -16.885,2.65 -16.135,2.65 ; -14.345,-2.65 -13.595,-2.65 ; -14.345,2.65 -13.595,2.65 ; -11.805,-2.65 -11.055,-2.65 ; -11.805,2.65 -11.055,2.65 ; -9.265,-2.65 -8.515,-2.65 ; -9.265,2.65 -8.515,2.65 ; -6.725,-2.65 -5.975,-2.65 ; -6.725,2.65 -5.975,2.65 ; -4.185,-2.65 -3.435,-2.65 ; -4.185,2.65 -3.435,2.65 ; -1.645,-2.65 -0.895,-2.65 ; -1.645,2.65 -0.895,2.65 ; 0.895,-2.65 1.645,-2.65 ; 0.895,2.65 1.645,2.65 ; 3.435,-2.65 4.185,-2.65 ; 3.435,2.65 4.185,2.65 ; 5.975,-2.65 6.725,-2.65 ; 5.975,2.65 6.725,2.65 ; 8.515,-2.65 9.265,-2.65 ; 8.515,2.65 9.265,2.65 ; 11.055,-2.65 11.805,-2.65 ; 11.055,2.65 11.805,2.65 ; 13.595,-2.65 14.345,-2.65 ; 13.595,2.65 14.345,2.65 ; 16.135,-2.65 16.885,-2.65 ; 16.135,2.65 16.885,2.65 ; 18.675,-2.65 19.425,-2.65 ; 18.675,2.65 19.425,2.65 ; 21.215,-2.65 21.965,-2.65 ; 21.215,2.65 21.965,2.65 ; 23.755,-2.65 24.505,-2.65 ; 23.755,2.65 24.505,2.65 ; 26.295,-2.65 27.045,-2.65 ; 26.295,2.65 27.045,2.65 ; 28.835,-2.65 29.32,-2.65 29.32,2.65 28.835,2.65
Top Assembly:
  lines w0.254: -28.44,2.54 -27.94,1.833 -27.44,2.54 ; -29.21,-2.54 29.21,-2.54 29.21,2.54 -29.21,2.54 -29.21,-2.54
  text "'.Designator'" at -4.047,-2.68 h1
Top Courtyard:
  lines w0.254: -29.71,-4.17 29.71,-4.17 29.71,4.17 -29.71,4.17 -29.71,-4.17
Top Designator:
  text ".Designator" at -7.618,-0.508 h1.52

## Samtec_HLE-123-02-xxx-DV_2x23_P2.54mm_Horizontal [mm]
pads (46):
  rect 1.27x2.29 smd: 1(-27.94,2.525) 2(-27.94,-2.525) 3(-25.4,2.525) 4(-25.4,-2.525) 5(-22.86,2.525) 6(-22.86,-2.525) 7(-20.32,2.525) 8(-20.32,-2.525) 9(-17.78,2.525) 10(-17.78,-2.525) 11(-15.24,2.525) 12(-15.24,-2.525) 13(-12.7,2.525) 14(-12.7,-2.525) 15(-10.16,2.525) 16(-10.16,-2.525) 17(-7.62,2.525) 18(-7.62,-2.525) 19(-5.08,2.525) 20(-5.08,-2.525) 21(-2.54,2.525) 22(-2.54,-2.525) 23(0,2.525) 24(0,-2.525) 25(2.54,2.525) 26(2.54,-2.525) 27(5.08,2.525) 28(5.08,-2.525) 29(7.62,2.525) 30(7.62,-2.525) 31(10.16,2.525) 32(10.16,-2.525) 33(12.7,2.525) 34(12.7,-2.525) 35(15.24,2.525) 36(15.24,-2.525) 37(17.78,2.525) 38(17.78,-2.525) 39(20.32,2.525) 40(20.32,-2.525) 41(22.86,2.525) 42(22.86,-2.525) 43(25.4,2.525) 44(25.4,-2.525) 45(27.94,2.525) 46(27.94,-2.525)
F.SilkS:
  lines w0.254: -28.835,-2.65 -29.32,-2.65 -29.32,2.65 -28.835,2.65 -28.835,3.67 ; -27.045,-2.65 -26.295,-2.65 ; -27.045,2.65 -26.295,2.65 ; -24.505,-2.65 -23.755,-2.65 ; -24.505,2.65 -23.755,2.65 ; -21.965,-2.65 -21.215,-2.65 ; -21.965,2.65 -21.215,2.65 ; -19.425,-2.65 -18.675,-2.65 ; -19.425,2.65 -18.675,2.65 ; -16.885,-2.65 -16.135,-2.65 ; -16.885,2.65 -16.135,2.65 ; -14.345,-2.65 -13.595,-2.65 ; -14.345,2.65 -13.595,2.65 ; -11.805,-2.65 -11.055,-2.65 ; -11.805,2.65 -11.055,2.65 ; -9.265,-2.65 -8.515,-2.65 ; -9.265,2.65 -8.515,2.65 ; -6.725,-2.65 -5.975,-2.65 ; -6.725,2.65 -5.975,2.65 ; -4.185,-2.65 -3.435,-2.65 ; -4.185,2.65 -3.435,2.65 ; -1.645,-2.65 -0.895,-2.65 ; -1.645,2.65 -0.895,2.65 ; 0.895,-2.65 1.645,-2.65 ; 0.895,2.65 1.645,2.65 ; 3.435,-2.65 4.185,-2.65 ; 3.435,2.65 4.185,2.65 ; 5.975,-2.65 6.725,-2.65 ; 5.975,2.65 6.725,2.65 ; 8.515,-2.65 9.265,-2.65 ; 8.515,2.65 9.265,2.65 ; 11.055,-2.65 11.805,-2.65 ; 11.055,2.65 11.805,2.65 ; 13.595,-2.65 14.345,-2.65 ; 13.595,2.65 14.345,2.65 ; 16.135,-2.65 16.885,-2.65 ; 16.135,2.65 16.885,2.65 ; 18.675,-2.65 19.425,-2.65 ; 18.675,2.65 19.425,2.65 ; 21.215,-2.65 21.965,-2.65 ; 21.215,2.65 21.965,2.65 ; 23.755,-2.65 24.505,-2.65 ; 23.755,2.65 24.505,2.65 ; 26.295,-2.65 27.045,-2.65 ; 26.295,2.65 27.045,2.65 ; 28.835,-2.65 29.32,-2.65 29.32,2.65 28.835,2.65
Top Assembly:
  lines w0.254: -28.44,2.54 -27.94,1.833 -27.44,2.54 ; -29.21,-2.54 29.21,-2.54 29.21,2.54 -29.21,2.54 -29.21,-2.54
  text "'.Designator'" at -4.047,-2.68 h1
Top Courtyard:
  lines w0.254: -29.71,-4.17 29.71,-4.17 29.71,4.17 -29.71,4.17 -29.71,-4.17
Top Designator:
  text ".Designator" at -7.618,-0.508 h1.52